# Altium schematic symbol library Sandbox.SCHLIB: 1 symbol
Pins are listed as number, name and electrical type; pins without a type are passive.

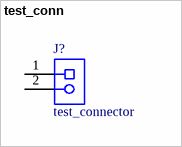
[diagram p0: symbol test_conn]

## test_conn
designator J?, comment test_connector
for playing around with; Manufacturer: Phoenix Contact; Manufacturer Part Number: 1729128; PDN_ROLE: SINK; PDN_I: 1; PDN_P_NET: P1V0A; PDN_N_NET: gndA; Component Type: Connectors
footprint test_connector_footprint (for playing)
pins: 1, 2